# Altium schematic symbol library SCH - POWER - SWITCHMODE - TI TPS65196RHD.SchLib: 1 symbol
Pins are listed as number, name and electrical type; pins without a type are passive.

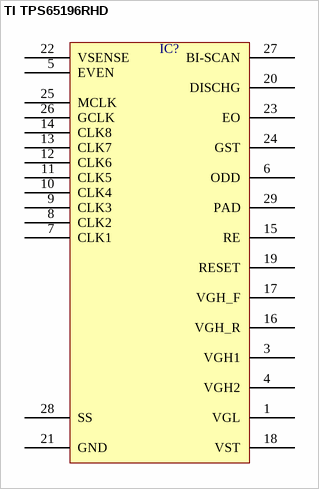
[diagram p0: symbol TI TPS65196RHD]

## TI TPS65196RHD
designator IC?  (value not drawn)
pins: 1 VGL, 3 VGH1, 4 VGH2, 5 EVEN, 6 ODD, 7 CLK1, 8 CLK2, 9 CLK3, 10 CLK4, 11 CLK5, 12 CLK6, 13 CLK7, 14 CLK8, 15 RE, 16 VGH_R, 17 VGH_F, 18 VST, 19 RESET, 20 DISCHG, 21 GND, 22 VSENSE, 23 EO, 24 GST, 25 MCLK, 26 GCLK, 27 BI-SCAN, 28 SS, 29 PAD